# EAGLE library part RELAY(S) (library relay)
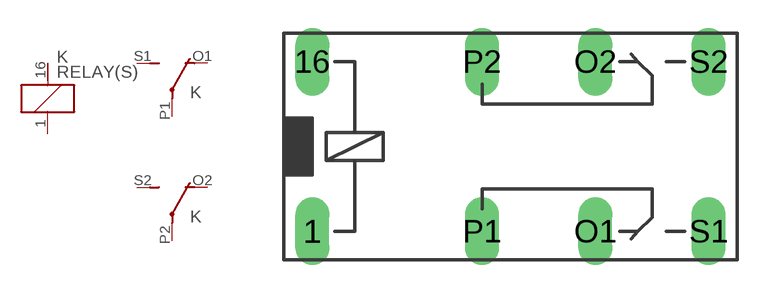
[diagram p0: symbol with the pads of G5V2; footprint G5V2]

Designator prefix K; gates 1=K 2=U 3=U

## RELAY(S)  [G5V2]
1  1:1  pas
16  1:2  pas
O1  2:O  pas
O2  3:O  pas
P1  2:P  pas
P2  3:P  pas
S1  2:S  pas
S2  3:S  pas

## Footprint G5V2 (pad centres in mm)
drill 1.016 long: 1 -10.16,-3.81; 16 -10.16,3.81; O1 2.54,-3.81; O2 2.54,3.81; P1 -2.54,-3.81; P2 -2.54,3.81; S1 7.62,-3.81; S2 7.62,3.81